# Altium schematic symbol library Master Board Polarímetro v2.1.SCHLIB: 86 symbols (part 2 of 2)
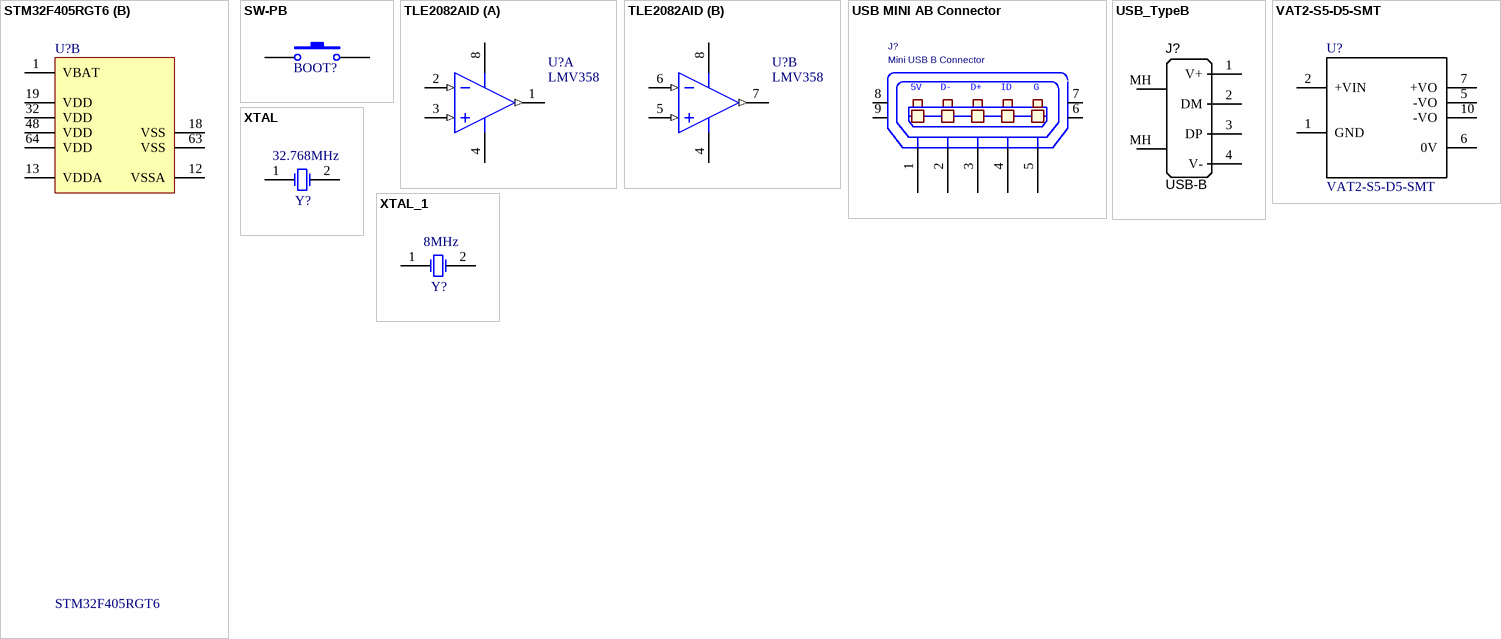
[diagram p3: symbols STM32F405RGT6 to XTAL_1]

## XTAL
designator Y?, comment 32.768MHz
Crystal Oscillator; P/N: ABM7-8.000MHZ-D2Y-T; Published: 8-Jun-2000; Revision: July-2002: Re-released for DXP Platform.; Publisher: Altium Limited; Value: 32.768MHz
footprint BCY-W2/D3.1 (Crystal, Thru-Hole; 2 Leads; Body 3.1 x 8.2 mm (Dia.xH))
simulation model XTAL (Spice Subcircuit)
footprint XTAL (HC49)
footprint XTAL_SMD
footprint ABS09 XTAL (32.768kHz SMD LOW PROFILE CRYSTAL)
pins: 1 OSC1, 2 OSC2

## XTAL_1
designator Y?, comment 8MHz
Crystal Oscillator; P/N: ABM7-8.000MHZ-D2Y-T; Published: 8-Jun-2000; Revision: July-2002: Re-released for DXP Platform.; Publisher: Altium Limited; Value: 8MHz
footprint BCY-W2/D3.1 (Crystal, Thru-Hole; 2 Leads; Body 3.1 x 8.2 mm (Dia.xH))
simulation model XTAL (Spice Subcircuit)
footprint XTAL (HC49)
footprint XTAL_SMD
footprint ABS09 XTAL (32.768kHz SMD LOW PROFILE CRYSTAL)
pins: 1 OSC1, 2 OSC2